# EAGLE library part SY100ELT23 (library SKAARHOJ)
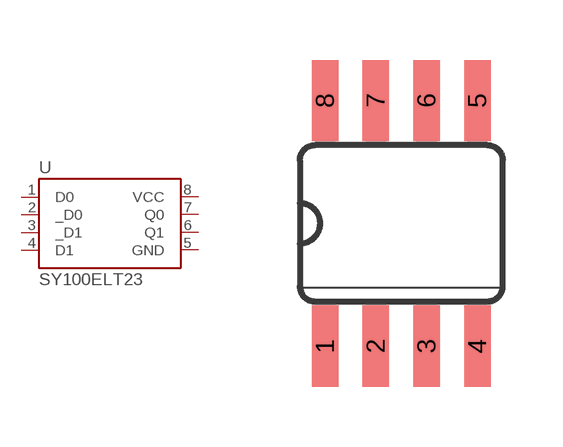
[diagram p45: symbol with the pads of SO08; footprint SO08]

Designator prefix -

## SY100ELT23  [SO08]
1  D0  in
2  _D0  in
3  _D1  in
4  D1  in
5  GND  pwr
6  Q1  out
7  Q0  out
8  VCC  pwr

## Footprint SO08 (pad centres in mm)
smd 0.66 x 2.032: 1 -1.905,-3.073; 2 -0.635,-3.073; 3 0.635,-3.073; 4 1.905,-3.073; 5 1.905,3.073; 6 0.635,3.073; 7 -0.635,3.073; 8 -1.905,3.073